# EAGLE library part PGA2311 (library Simplex-ICs)
TI PGA2133 stereo audio volume control
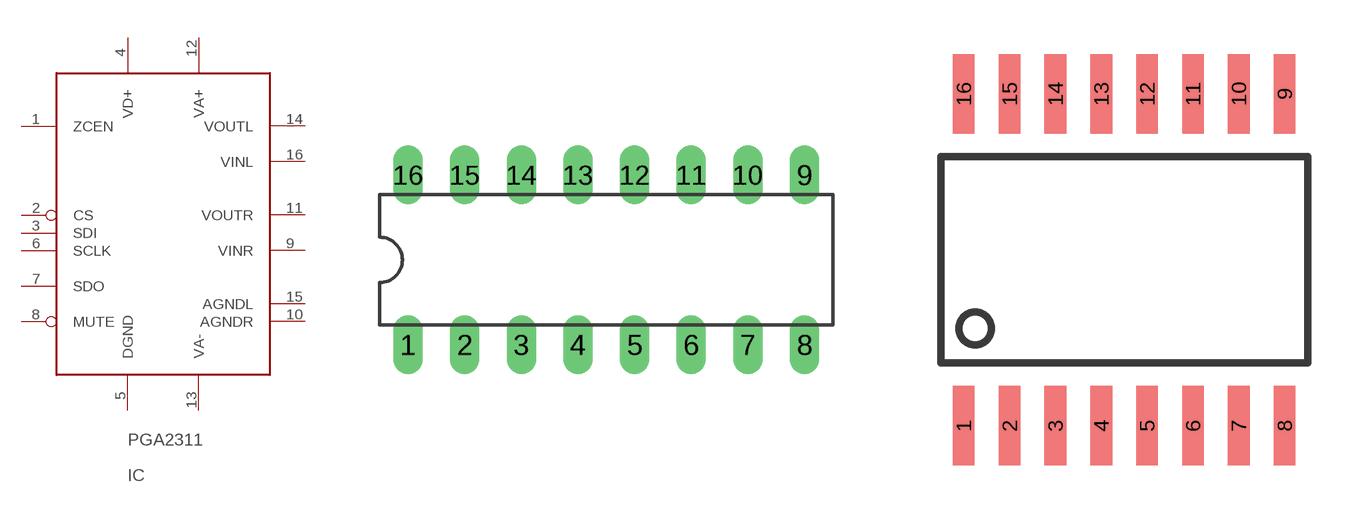
[diagram p7: symbol with the pads of DIL16; footprints DIL16, SO-16]

Designator prefix IC

## PGA2311P  [DIL16]
1  ZCEN  in
2  CS  in
3  SDI  in
4  VD+  pwr
5  DGND  pwr
6  SCLK  in
7  SDO  out
8  MUTE  in
9  VINR  in
10  AGNDR  pwr
11  VOUTR  out
12  VA+  pwr
13  VA-  pwr
14  VOUTL  out
15  AGNDL  pwr
16  VINL  in

## PGA2311  [SO-16]
Pads as for DIL16

## Footprint DIL16 (pad centres in mm)
Dual In Line Package
drill 0.813 long: 1 -8.89,-3.81; 2 -6.35,-3.81; 3 -3.81,-3.81; 4 -1.27,-3.81; 5 1.27,-3.81; 6 3.81,-3.81; 7 6.35,-3.81; 8 8.89,-3.81; 9 8.89,3.81; 10 6.35,3.81; 11 3.81,3.81; 12 1.27,3.81; 13 -1.27,3.81; 14 -3.81,3.81; 15 -6.35,3.81; 16 -8.89,3.81

## Footprint SO-16 (pad centres in mm)
Small Outline Integrated Circuit wide
smd 0.6 x 2.2: 1 -4.445,-4.6; 2 -3.175,-4.6; 3 -1.905,-4.6; 4 -0.635,-4.6; 5 0.635,-4.6; 6 1.905,-4.6; 7 3.175,-4.6; 8 4.445,-4.6; 9 4.445,4.6; 10 3.175,4.6; 11 1.905,4.6; 12 0.635,4.6; 13 -0.635,4.6; 14 -1.905,4.6; 15 -3.175,4.6; 16 -4.445,4.6